# EAGLE library part 690367180872 (library WR-MM)
WR-MM Female Connector w/o Latch & w/o Polarization Material Properties Insulator Material PBT Insulator Flammability Rating UL94 V-0 Insulator Color Red Contact Material Phosphor Bronze Contact Plating Matte Tin over Nickel Contact Type Stamped Packaging Properties cULus Approval E323964 Packaging Tube General Information Operating Temperature -40 °C up to +105 °C Pitch 2.54 mm Gender Female Electrical Properties Working Voltage 250 V (AC) Withstanding Voltage 500 V (AC) Contact Resistance 10 mΩ RISO 1000 MΩ <https://www.we-online.com/components/media/o33158v209%20Family-WR-MM-69035728xx76.jpg> Details see: www.we-online.com/en/components/products/MM_1_27_FEMALE_CONNECTOR_W_O_LATCH_AND_POLARIZATION_69036718XX72_2 <www.we-online.com/catalog/MM_1_27_FEMALE_CONNECTOR_W_O_LATCH_AND_POLARIZATION_69036718XX72_2/?utm_source=eagle_model&utm_medium=description_link&utm_campaign=eisos_eagle> Updated by Ella 2025-02-28 2025 (C) Würth Elektronik
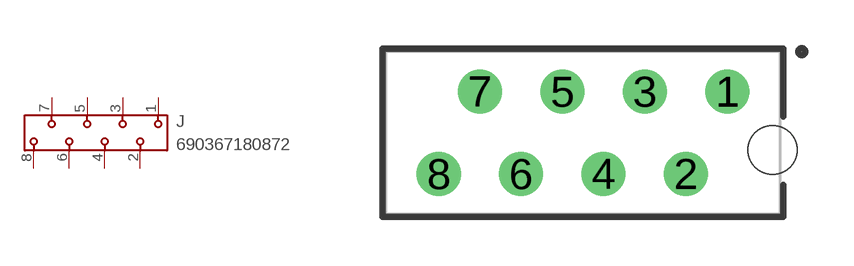
[diagram p69: symbol with the pads of 690367180872; footprint 690367180872]

Designator prefix J

## 690367180872 (DATASHEET-URL: https://www.we-online.com/redexpert/spec/690367180872?ae; GENDER: Female; IR: 1.5A; PACKAGING: Tube; PART-NUMBER: 690367180872; PINS: 8; PITCH: 2.54; TYPE: Straight; VALUE: 690367180872)  [690367180872]
1  1  pas
2  2  pas
3  3  pas
4  4  pas
5  5  pas
6  6  pas
7  7  pas
8  8  pas

## Footprint 690367180872 (pad centres in mm)
WR-MM Female Connector w/o Latch & w/o Polarization, 8 Pins
drill 0.85: 1 4.445,1.27; 2 3.175,-1.27; 3 1.905,1.27; 4 0.635,-1.27; 5 -0.635,1.27; 6 -1.905,-1.27; 7 -3.175,1.27; 8 -4.445,-1.27
hole 1.5 at 5.845,-0.53